# EAGLE library part 2G12X (library zkseagle)
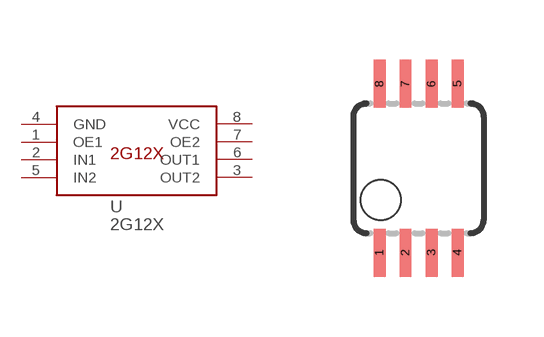
[diagram p28: symbol with the pads of MSOP08; footprint MSOP08]

Designator prefix -

## 2G12X  [MSOP08]
1  OE1  in
2  IN1  in
3  OUT2  out
4  GND  pwr
5  IN2
6  OUT1  out
7  OE2  in
8  VCC  pwr

## Footprint MSOP08 (pad centres in mm)
Mini Small Outline Package
smd 0.3 x 1.2: 1 -0.976,-2.113; 2 -0.326,-2.113; 3 0.324,-2.113; 4 0.974,-2.113; 5 0.974,2.112; 6 0.324,2.112; 7 -0.326,2.112; 8 -0.976,2.112